# Altium footprint library SX1308_GTW_e381v02c.PcbLib: 73 footprints (part 4 of 5)
Each footprint in its own frame and in the unit in brackets; x right, y up, seen from the top. Pads: shape width x height; smd on the part's side, far side on the other; paste and mask are expansions set on the pad; w line width, h text height; cw(c..) or ccw(c..) is an arc to the next point about the centre after c.
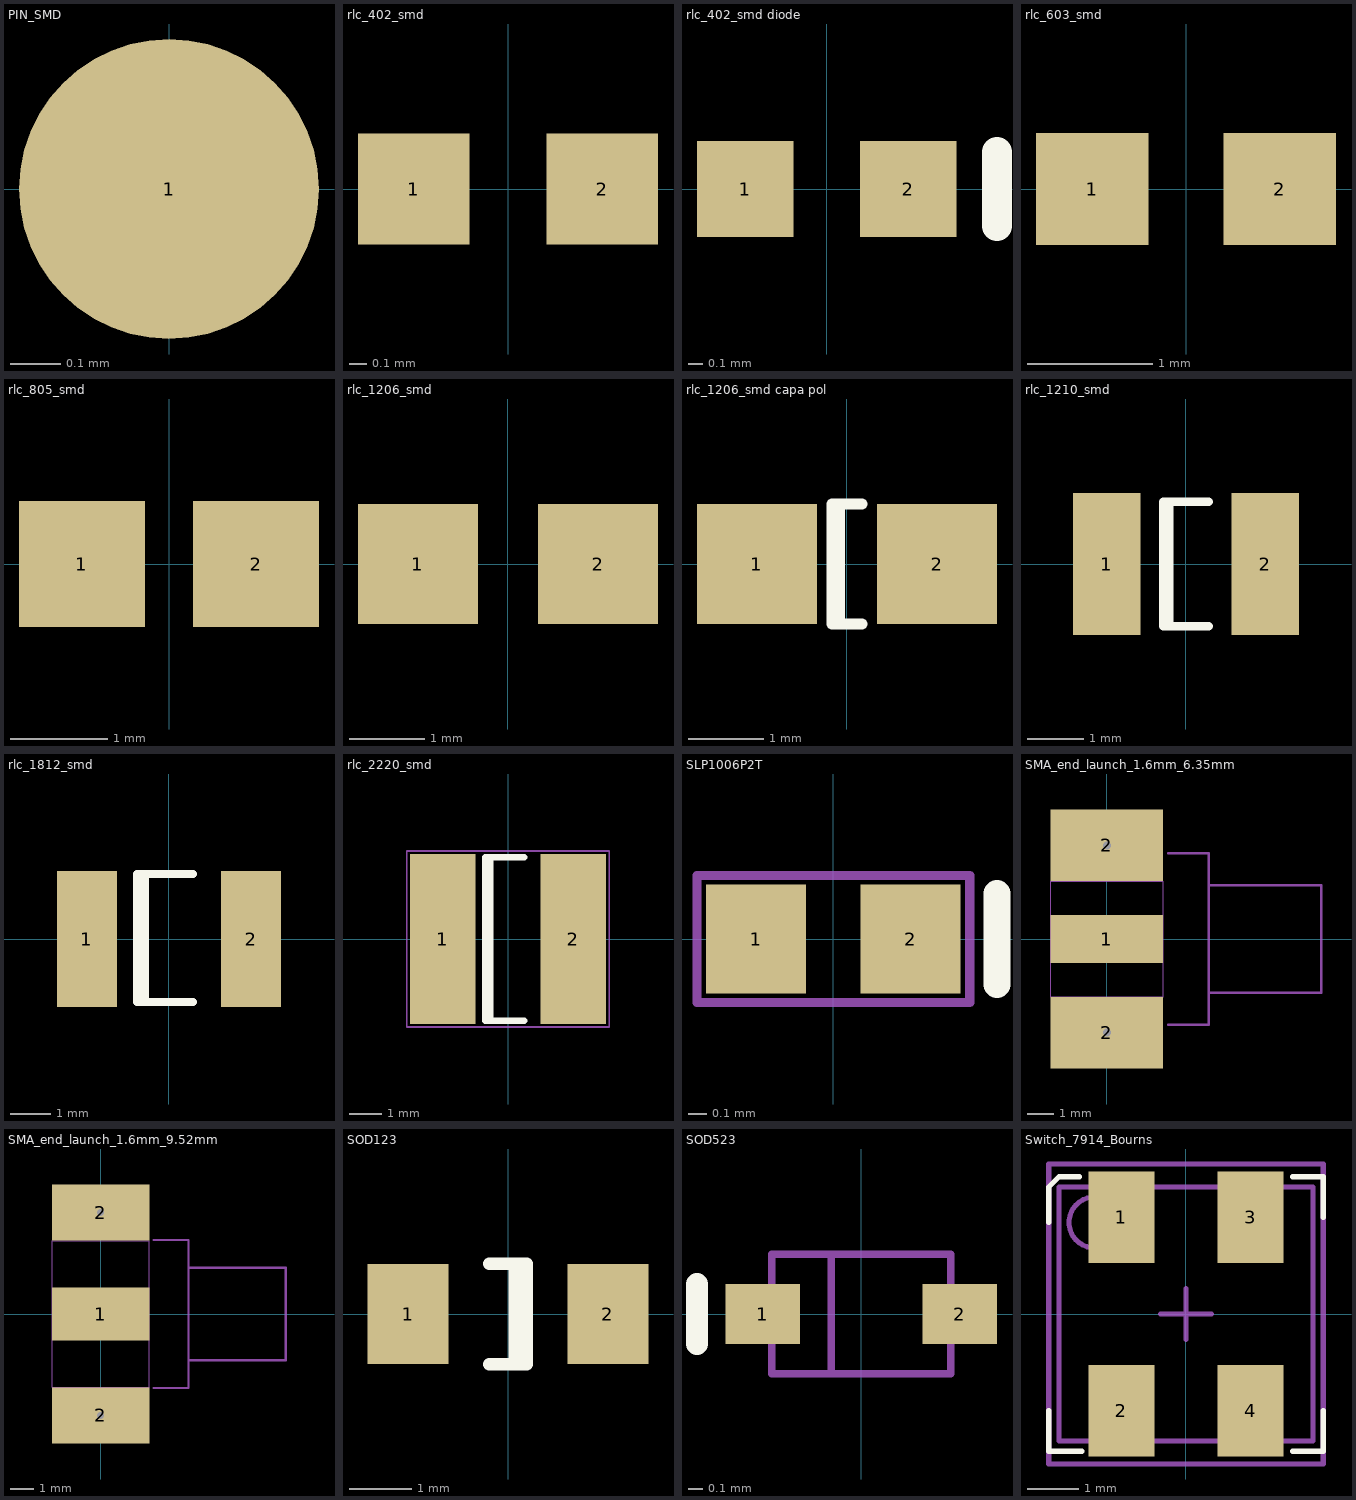
[diagram p3: the footprints below, top view; thin cyan lines are the x and y axes]

## PIN_SMD [mm] "Generic Pin SMD; 1 Lead"
height 1
pads (1):
  round 0.6 smd paste-3: 1(0,0)

## rlc_402_smd [mm] "Chip SMD component 402; Body 1.0 x 0.5 mm (LxW typ)"
height 0.8
pads (2):
  rect 0.65x0.65 smd mask+0.05: 1(-0.55,0) 2(0.55,0)
3D body: height 0.8, standoff 0.2, extent -0.875,-0.325 0.875,0.325

## rlc_402_smd diode [mm] "Chip SMD component 402; Body 1.0 x 0.5 mm (LxW typ)"
height 0.8
pads (2):
  rect 0.65x0.65 smd mask+0.05: 1(-0.55,0) 2(0.55,0)
Top Overlay:
  lines w0.2: 1.15,-0.25 1.15,0.25

## rlc_603_smd [mm] "Chip SMD component 603; Body 1.6 x 0.8mm (LxW typ)"
height 1
pads (2):
  rect 0.9x0.9 smd paste+0 mask+0.05: 1(-0.75,0) 2(0.75,0)

## rlc_805_smd [mm] "Chip SMD component 805; Body 2.0 x 1.25 mm (LxW typ)"
height 1.4
pads (2):
  rect 1.3x1.3 smd mask+0.05: 1(-0.9,0) 2(0.9,0)

## rlc_1206_smd [mm] "Chip SMD component 1206; Body 3.2 x 1.6 mm (LxW typ)"
height 2
pads (2):
  rect 1.6x1.6 smd mask+0.05: 1(-1.2,0) 2(1.2,0)

## rlc_1206_smd capa pol [mm] "Chip SMD component 1206; Body 3.2 x 1.6 mm (LxW typ)"
height 2
pads (2):
  rect 1.6x1.6 smd mask+0.05: 1(-1.2,0) 2(1.2,0)
Top Overlay:
  lines w0.15: -0.1,-0.8 -0.1,0.8 ; 0.2,-0.8 -0.2,-0.8 -0.2,0.8 0.2,0.8

## rlc_1210_smd [mm] "Chip SMD component 1210; Body 3.2 x 2.5 mm (LxW typ)"
height 2
pads (2):
  rect 1.2x2.5 smd mask+0.05: 1(-1.4,0) 2(1.4,0)
Top Overlay:
  lines w0.15: -0.3,-1.1 -0.3,1.1 ; 0.4,-1.1 -0.4,-1.1 -0.4,1.1 0.4,1.1

## rlc_1812_smd [mm] "Chip SMD component 1812; Body 4.5 x 3.2 mm (LxW typ)"
height 2.5
pads (2):
  rect 1.5x3.4 smd mask+0.05: 1(-2.05,0) 2(2.05,0)
Top Overlay:
  lines w0.2: -0.606,-1.579 -0.606,1.621 ; 0.604,-1.579 -0.796,-1.579 -0.796,1.621 0.604,1.621

## rlc_2220_smd [mm] "Chip SMD component ; Body 5.7 x 5.0 mm (LxW typ)"
height 5
pads (2):
  rect 2x5.2 smd mask+0.05: 1(-2,0) 2(2,0)
Top Overlay:
  lines w0.2: -0.55,-2.5 -0.55,2.5 ; 0.5,-2.5 -0.7,-2.5 -0.7,2.5 0.5,2.5
Mechanical 15:
  lines w0.05: -3.1,-2.7 3.1,-2.7 3.1,2.7 -3.1,2.7 -3.1,-2.7

## SLP1006P2T [mm] "Chip TVS Diode; Body 1.0 x 0.6 mm (LxW typ)"
height 0.5
pads (2):
  rect 0.55x0.6 smd mask+0.05: 1(-0.425,0) 2(0.425,0)
Top Overlay:
  lines w0.15: 0.9,-0.25 0.9,0.25
Mechanical 15:
  lines w0.05: -0.75,-0.35 0.75,-0.35 0.75,0.35 -0.75,0.35 -0.75,-0.35
3D body: height 0.8, standoff 0.2, extent -0.5,-0.3 0.5,0.3

## SMA_end_launch_1.6mm_6.35mm [mm] "SMA end launch for 1.6mm PCB thickness; 6.35mm"
height 6.35
pads (3):
  rect 4.2x1.778 smd mask+0.05: 1(0,0)
  rect 4.2x2.667 hole 0.3 mask+0.05: 2(0,-3.495) 2(0,3.495)
Mechanical 15:
  lines w0.01: -2.1,-2.16 -2.1,2.16 2.1,2.16 2.1,-2.16 -2.1,-2.16
  lines w0.1: 2.295,-3.2 3.796,-3.2 3.796,-2 ; 2.295,3.2 3.796,3.2 3.796,2 ; 3.796,-2 3.796,2 ; 3.796,-2 8,-2 8,2 3.796,2

## SMA_end_launch_1.6mm_9.52mm [mm] "SMA end launch for 1.6mm PCB thickness; 9.52mm"
height 10
pads (3):
  rect 4.2x2.286 smd mask+0.05: 1(0,0)
  rect 4.2x2.413 hole 0.3 mask+0.05: 2(0,-4.38) 2(0,4.38)
Mechanical 15:
  lines w0.01: -2.1,-3.17 2.1,-3.17 2.1,3.17 -2.1,3.17 -2.1,-3.17
  lines w0.1: 2.295,-3.2 3.796,-3.2 3.796,-2 ; 2.295,3.2 3.796,3.2 3.796,2 ; 3.796,-2 8,-2 8,2 3.796,2 ; 3.796,-2 3.796,2

## SOD123 [mm] "SOD123; Chip Diode; Body  2.7 x 1.6 mm (LxW typ)"
height 1.35
pads (2):
  rect 1.3x1.6 smd mask+0.05: 1(-1.6,0) 2(1.6,0)
Top Overlay:
  lines w0.2: -0.3,-0.8 0.3,-0.8 0.3,0.8 -0.3,0.8 ; 0.11,-0.8 0.11,0.8

## SOD523 [mm] "SOD523; Chip Diode; Body 1.2 x 0.8 mm (LxW typ)"
height 0.7
pads (2):
  rect 0.5x0.4 smd mask+0.05: 1(-0.66,0) 2(0.66,0)
Top Overlay:
  lines w0.15: -1.1,-0.2 -1.1,0.2
Mechanical 15:
  lines w0.05: -0.2,-0.4 -0.2,0.4 ; -0.6,-0.4 0.6,-0.4 0.6,0.4 -0.6,0.4 -0.6,-0.4
3D body: height 0.8, standoff 0.1, extent -0.6,-0.4 0.6,0.4

## Switch_7914_Bourns [mm] "Switch Bourns 7914 SMD"
height 3
pads (4):
  rect 1.3x1.8 smd mask+0.05: 1(-1.27,1.9) 2(-1.27,-1.9) 3(1.27,1.9) 4(1.27,-1.9)
Top Overlay:
  lines w0.1: -2.7,-1.9 -2.7,-2.7 -2.05,-2.7 ; -2.7,1.8 -2.7,2.5 -2.5,2.7 -2.1,2.7 ; 2.1,-2.7 2.7,-2.7 2.7,-1.9 ; 2.1,2.7 2.7,2.7 2.7,1.9
Mechanical 13:
  circle w0.1: c-1.8,1.8 r0.5
  lines w0.1: -2.5,-2.5 2.5,-2.5 2.5,2.5 -2.5,2.5 -2.5,-2.5
Mechanical 15:
  lines w0.1: -0.5,0 0.5,0 ; 0,-0.5 0,0.5 ; -2.7,-2.95 -2.7,2.95 2.7,2.95 2.7,-2.95 -2.7,-2.95
3D body: height 1.75, standoff 0, extent -2.5,-2.5 2.5,2.5